# EAGLE library part PIC18F65J94 (library jasons_stuff)
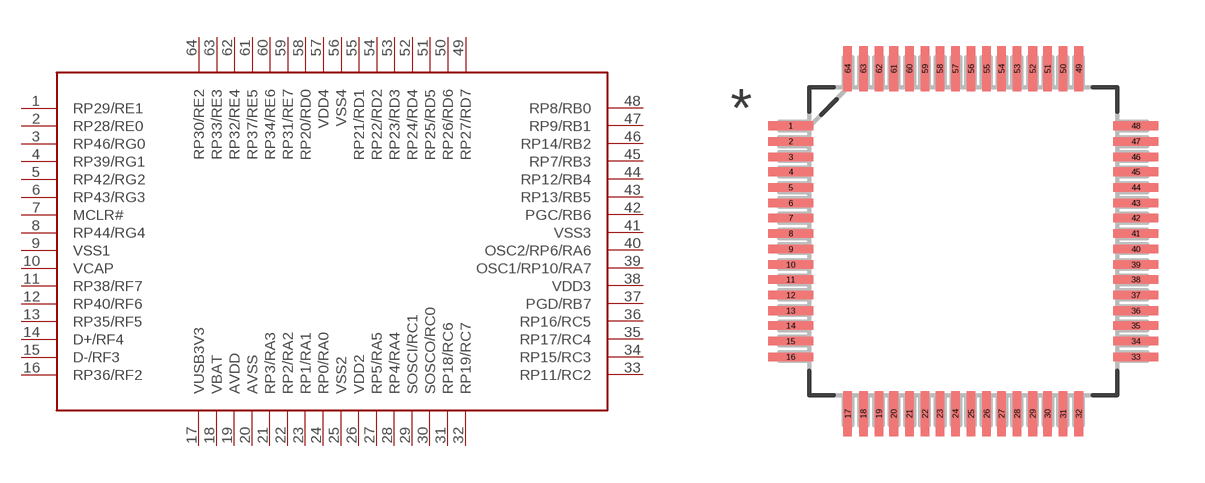
[diagram p38: symbol with the pads of QFP50P1200X1200X120-64N; footprint QFP50P1200X1200X120-64N]

Designator prefix -

## PIC18F65J94TQFP64  [QFP50P1200X1200X120-64N]
1  RP29/RE1
2  RP28/RE0
3  RP46/RG0
4  RP39/RG1
5  RP42/RG2
6  RP43/RG3
7  MCLR#
8  RP44/RG4
9  VSS1
10  VCAP
11  RP38/RF7
12  RP40/RF6
13  RP35/RF5
14  D+/RF4
15  D-/RF3
16  RP36/RF2
17  VUSB3V3
18  VBAT
19  AVDD
20  AVSS
21  RP3/RA3
22  RP2/RA2
23  RP1/RA1
24  RP0/RA0
25  VSS2
26  VDD2
27  RP5/RA5
28  RP4/RA4
29  SOSCI/RC1
30  SOSCO/RC0
31  RP18/RC6
32  RP19/RC7
33  RP11/RC2
34  RP15/RC3
35  RP17/RC4
36  RP16/RC5
37  PGD/RB7
38  VDD3
39  OSC1/RP10/RA7
40  OSC2/RP6/RA6
41  VSS3
42  PGC/RB6
43  RP13/RB5
44  RP12/RB4
45  RP7/RB3
46  RP14/RB2
47  RP9/RB1
48  RP8/RB0
49  RP27/RD7
50  RP26/RD6
51  RP25/RD5
52  RP24/RD4
53  RP23/RD3
54  RP22/RD2
55  RP21/RD1
56  VSS4
57  VDD4
58  RP20/RD0
59  RP31/RE7
60  RP34/RE6
61  RP37/RE5
62  RP32/RE4
63  RP33/RE3
64  RP30/RE2

## Footprint QFP50P1200X1200X120-64N (pad centres in mm)
smd 1.473 x 0.279: 1 -5.613,3.759; 2 -5.613,3.251; 3 -5.613,2.743; 4 -5.613,2.261; 5 -5.613,1.753; 6 -5.613,1.245; 7 -5.613,0.762; 8 -5.613,0.254; 9 -5.613,-0.254; 10 -5.613,-0.762; 11 -5.613,-1.245; 12 -5.613,-1.753; 13 -5.613,-2.261; 14 -5.613,-2.743; 15 -5.613,-3.251; 16 -5.613,-3.759; 33 5.613,-3.759; 34 5.613,-3.251; 35 5.613,-2.743; 36 5.613,-2.261; 37 5.613,-1.753; 38 5.613,-1.245; 39 5.613,-0.762; 40 5.613,-0.254; 41 5.613,0.254; 42 5.613,0.762; 43 5.613,1.245; 44 5.613,1.753; 45 5.613,2.261; 46 5.613,2.743; 47 5.613,3.251; 48 5.613,3.759
smd 0.279 x 1.473: 17 -3.759,-5.613; 18 -3.251,-5.613; 19 -2.743,-5.613; 20 -2.261,-5.613; 21 -1.753,-5.613; 22 -1.245,-5.613; 23 -0.762,-5.613; 24 -0.254,-5.613; 25 0.254,-5.613; 26 0.762,-5.613; 27 1.245,-5.613; 28 1.753,-5.613; 29 2.261,-5.613; 30 2.743,-5.613; 31 3.251,-5.613; 32 3.759,-5.613; 49 3.759,5.613; 50 3.251,5.613; 51 2.743,5.613; 52 2.261,5.613; 53 1.753,5.613; 54 1.245,5.613; 55 0.762,5.613; 56 0.254,5.613; 57 -0.254,5.613; 58 -0.762,5.613; 59 -1.245,5.613; 60 -1.753,5.613; 61 -2.261,5.613; 62 -2.743,5.613; 63 -3.251,5.613; 64 -3.759,5.613